# Altium footprint library PcbLib1.PcbLib: 27 footprints (part 1 of 2)
Each footprint in its own frame and in the unit in brackets; x right, y up, seen from the top. Pads: shape width x height; smd on the part's side, far side on the other; paste and mask are expansions set on the pad; w line width, h text height; cw(c..) or ccw(c..) is an arc to the next point about the centre after c.
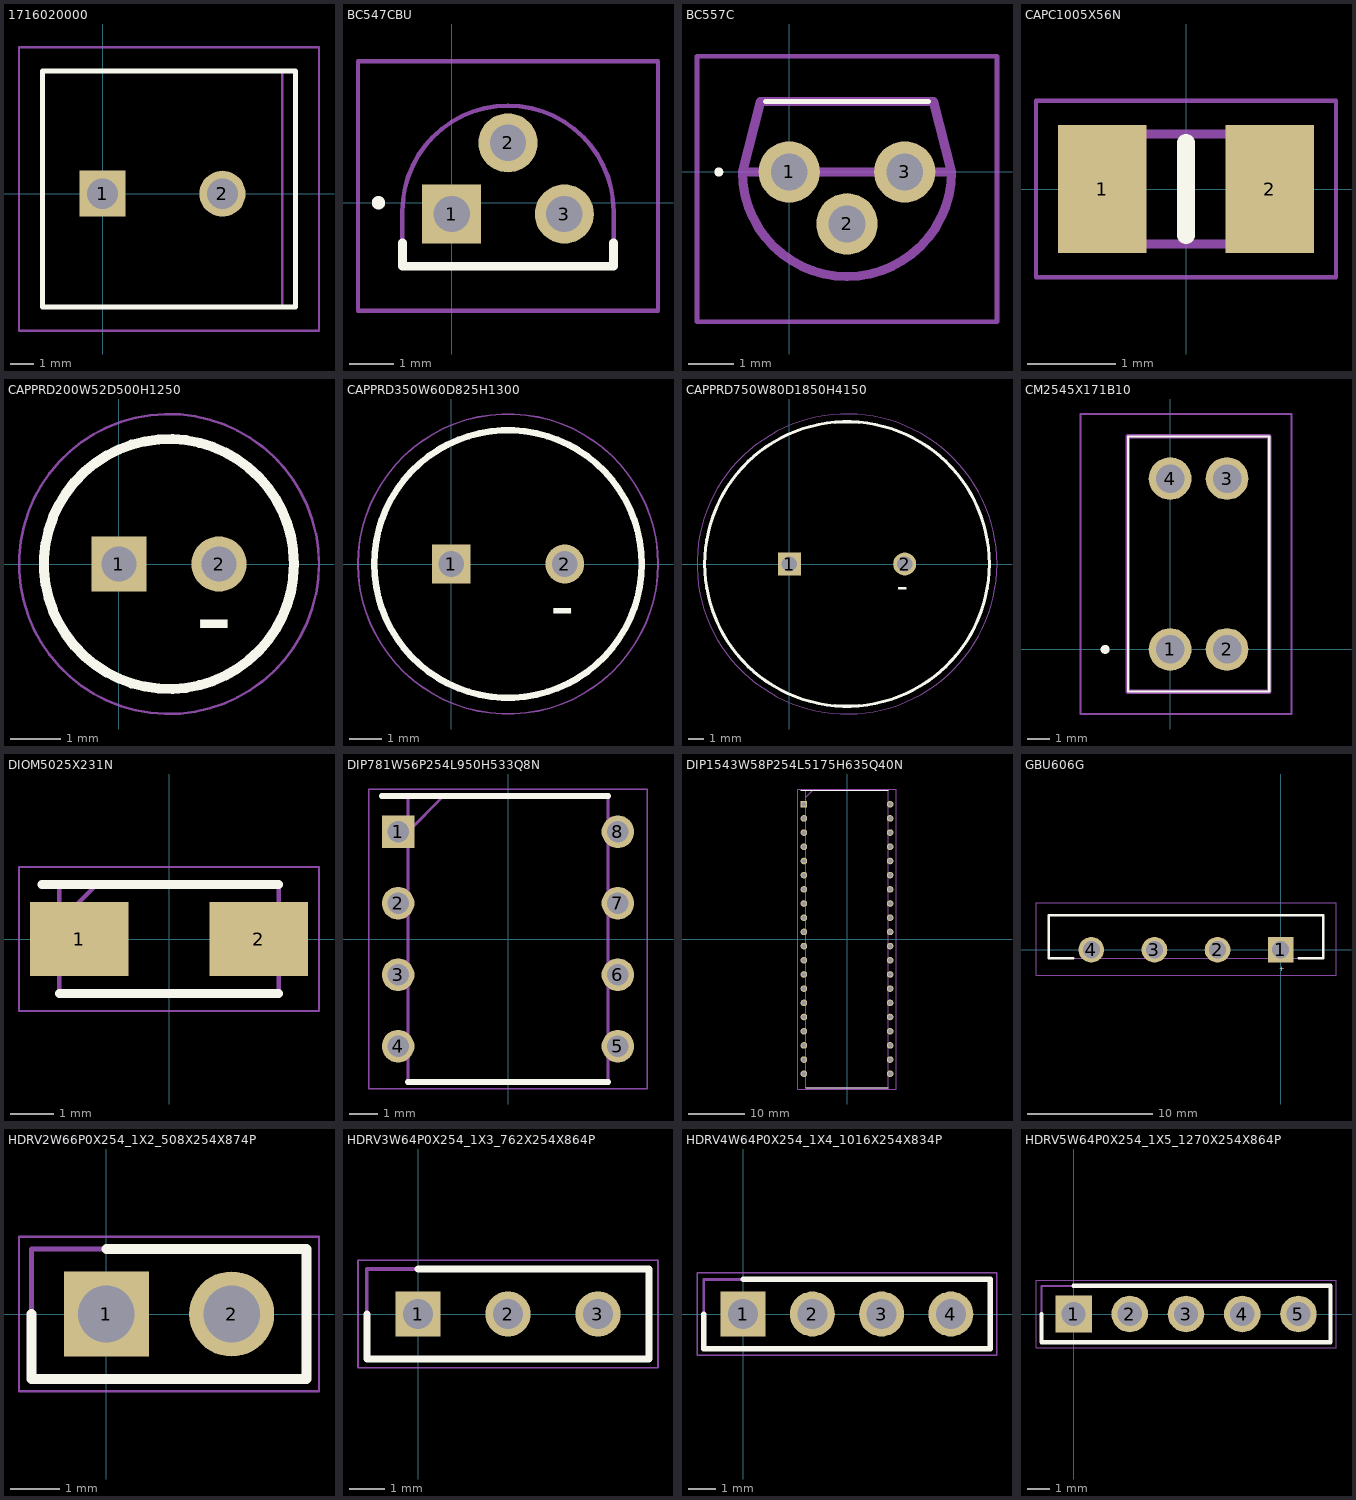
[diagram p0: the footprints below, top view; thin cyan lines are the x and y axes]

## 1716020000 [mm]
pads (2):
  rect 1.95x1.95 hole 1.3: 1(0,0)
  round 1.95 hole 1.3: 2(5.08,0)
Top Overlay:
  lines w0.2: -2.54,-4.8 -2.54,5.2 8.17,5.2 8.17,-4.8 -2.54,-4.8
Mechanical 13:
  lines w0.1: 7.62,-4.8 7.62,5.2 ; -2.54,-4.8 -2.54,5.2 8.17,5.2 8.17,-4.8 -2.54,-4.8
Mechanical 15:
  lines w0.1: -3.54,-5.8 -3.54,6.2 9.17,6.2 9.17,-5.8 -3.54,-5.8
3D body "1716020000.stp": height 13.8, standoff -3.5, extent -2.54,-4.8 8.17,5.2

## BC547CBU [mm]
pads (3):
  rect 1.333x1.333 hole 0.82: 1(0,-0.254)
  round 1.333 hole 0.82: 2(1.27,1.35) 3(2.54,-0.254)
Top Overlay:
  lines w0.2: -1.11,-0.9 -1.11,-1.43 3.65,-1.43 3.65,-0.9 ; -1.7,0 ccw(c-1.65,0) -1.6,0 ; -1.7,0 cw(c-1.65,0) -1.6,0 ; -1.7,0 ccw(c-1.65,0) -1.6,0
Mechanical 13:
  lines w0.1: -1.11,-1.43 1.27,-1.43 3.65,-1.43 3.65,-0.19 ccw(c1.27,-0.19) -1.11,-0.19 -1.11,-1.43
Mechanical 15:
  lines w0.1: -2.11,-2.43 4.65,-2.43 4.65,3.19 -2.11,3.19 -2.11,-2.43
3D body "BC547CBU.stp": height 5.43, standoff -5, extent -1.11,-1.43 3.65,2.19

## BC557C [mm]
pads (3):
  round 1.35 hole 0.81: 1(0,0) 2(1.27,-1.143) 3(2.54,0)
Top Overlay:
  lines w0.1: -0.53,1.55 3.07,1.55 ; -1.6,0 ccw(c-1.55,0) -1.5,0 ccw(c-1.55,0) -1.6,0
Mechanical 13:
  lines w0.2: -1.03,0 ccw(c1.27,0) 3.57,0 ; -1.03,0 3.57,0 ; -1.03,0 -0.63,1.55 3.17,1.55 3.57,0
Mechanical 15:
  lines w0.1: -2.03,-3.3 4.57,-3.3 4.57,2.55 -2.03,2.55 -2.03,-3.3

## CAPC1005X56N [mm]
pads (2):
  rect 1x1.45 smd: 1(-0.95,0) 2(0.95,0)
Top Overlay:
  lines w0.2: 0,-0.525 0,0.525
Mechanical 13:
  lines w0.1: -1,-0.625 1,-0.625 1,0.625 -1,0.625 -1,-0.625
Mechanical 15:
  lines w0.05: -1.7,-1 1.7,-1 1.7,1 -1.7,1 -1.7,-1
3D body "CPF0805B100RE1.stp": height 0.65, standoff 0, extent -1,-0.625 1,0.625

## CAPPRD200W52D500H1250 [mm]
pads (2):
  rect 1.1x1.1 hole 0.7: 1(0,0)
  round 1.1 hole 0.7: 2(2,0)
Top Overlay:
  circle w0.2: c1,0 r2.5
  text "-" at 1.524,-1.778 h1.52
Mechanical 13:
  circle w0.1: c1,0 r2.5
Mechanical 15:
  circle w0.05: c1,0 r3
3D body "860020672010.stp": height 12.5, standoff -10, extent -1.75,-2.75 3.75,2.75

## CAPPRD350W60D825H1300 [mm]
pads (2):
  rect 1.2x1.2 hole 0.8: 1(0,0)
  round 1.2 hole 0.8: 2(3.5,0)
Top Overlay:
  circle w0.2: c1.75,0 r4.125
  text "-" at 3.048,-2.032 h1.52
Mechanical 13:
  circle w0.1: c1.75,0 r4.125
Mechanical 15:
  circle w0.05: c1.75,0 r4.625
3D body "RGA101M1HBK-0811G.stp": height 13, standoff -10, extent -2.5,-4.25 6,4.25

## CAPPRD750W80D1850H4150 [mm]
pads (2):
  rect 1.5x1.5 hole 1: 1(0,0)
  round 1.5 hole 1: 2(7.5,0)
Top Overlay:
  circle w0.2: c3.75,0 r9.25
  text "-" at 6.985,-2.159 h1.52
Mechanical 13:
  circle w0.1: c3.75,0 r9.25
Mechanical 15:
  circle w0.05: c3.75,0 r9.75
3D body "50PK4700MEFC18X40.stp": height 41.5, standoff -10, extent -5.5,-9.25 13,9.25

## CM2545X171B10 [mm]
pads (4):
  round 1.905 hole 1.27: 1(0,0) 2(2.54,0) 3(2.54,7.62) 4(0,7.62)
Top Overlay:
  lines w0.1: -1.88,-1.88 4.42,-1.88 4.42,9.5 -1.88,9.5 -1.88,-1.88
  lines w0.2: -3,0 ccw(c-2.9,0) -2.8,0 ccw(c-2.9,0) -3,0
Mechanical 13:
  lines w0.2: -1.88,-1.88 4.42,-1.88 4.42,9.5 -1.88,9.5 -1.88,-1.88
Mechanical 15:
  lines w0.1: -4,-2.88 5.42,-2.88 5.42,10.5 -4,10.5 -4,-2.88
3D body "CM2545X171B-10.stp": height 9.6, standoff -5, extent -1.88,-1.88 4.42,9.5

## DIOM5025X231N [mm]
pads (2):
  rect 2.25x1.7 smd: 1(-2.05,0) 2(2.05,0)
Top Overlay:
  lines w0.2: -2.9,1.242 2.502,1.242 ; -2.502,-1.242 2.502,-1.242
Mechanical 13:
  lines w0.1: -2.502,0.392 -1.652,1.242 ; -2.502,-1.242 2.502,-1.242 2.502,1.242 -2.502,1.242 -2.502,-1.242
Mechanical 15:
  lines w0.05: -3.425,-1.645 3.425,-1.645 3.425,1.645 -3.425,1.645 -3.425,-1.645
3D body "FM4007W-W.stp": height 2.31, standoff 0, extent -2.502,-1.242 2.502,1.242

## DIP781W56P254L950H533Q8N [mm]
pads (8):
  rect 1.158x1.158 hole 0.758: 1(-3.905,3.81)
  round 1.158 hole 0.758: 2(-3.905,1.27) 3(-3.905,-1.27) 4(-3.905,-3.81) 5(3.905,-3.81) 6(3.905,-1.27) 7(3.905,1.27) 8(3.905,3.81)
Top Overlay:
  lines w0.2: -4.484,5.08 3.556,5.08 ; -3.556,-5.08 3.556,-5.08
Mechanical 13:
  lines w0.1: -3.556,3.81 -2.286,5.08 ; -3.556,-5.08 3.556,-5.08 3.556,5.08 -3.556,5.08 -3.556,-5.08
Mechanical 15:
  lines w0.05: -4.956,-5.33 4.956,-5.33 4.956,5.33 -4.956,5.33 -4.956,-5.33
3D body "MCP6002-E_P.stp": height 5.33, standoff -3.5, extent -4.045,-4.75 4.045,4.75

## DIP1543W58P254L5175H635Q40N [mm]
pads (40):
  rect 1.184x1.184 hole 0.784: 1(-7.715,24.13)
  round 1.184 hole 0.784: 2(-7.715,21.59) 3(-7.715,19.05) 4(-7.715,16.51) 5(-7.715,13.97) 6(-7.715,11.43) 7(-7.715,8.89) 8(-7.715,6.35) 9(-7.715,3.81) 10(-7.715,1.27) 11(-7.715,-1.27) 12(-7.715,-3.81) 13(-7.715,-6.35) 14(-7.715,-8.89) 15(-7.715,-11.43) 16(-7.715,-13.97) 17(-7.715,-16.51) 18(-7.715,-19.05) 19(-7.715,-21.59) 20(-7.715,-24.13) 21(7.715,-24.13) 22(7.715,-21.59) 23(7.715,-19.05) 24(7.715,-16.51) 25(7.715,-13.97) 26(7.715,-11.43) 27(7.715,-8.89) 28(7.715,-6.35) 29(7.715,-3.81) 30(7.715,-1.27) 31(7.715,1.27) 32(7.715,3.81) 33(7.715,6.35) 34(7.715,8.89) 35(7.715,11.43) 36(7.715,13.97) 37(7.715,16.51) 38(7.715,19.05) 39(7.715,21.59) 40(7.715,24.13)
Top Overlay:
  lines w0.2: -8.307,26.606 7.366,26.606 ; -7.366,-26.606 7.366,-26.606
Mechanical 13:
  lines w0.1: -7.366,25.336 -6.096,26.606 ; -7.366,-26.606 -7.366,26.606 7.366,26.606 7.366,-26.606 -7.366,-26.606
Mechanical 15:
  lines w0.05: -8.78,-26.856 -8.78,26.856 8.78,26.856 8.78,-26.856 -8.78,-26.856
3D body "ATMEGA4809-PF.stp": height 6.35, standoff -3.5, extent -7.861,-25.876 7.861,25.876

## GBU606G [mm]
pads (4):
  rect 2.055x2.055 hole 1.37: 1(0,0)
  round 2.055 hole 1.37: 2(-5.05,0) 3(-10.1,0) 4(-15.15,0)
Top Overlay:
  lines w0.2: -16.575,-0.695 -18.575,-0.695 -18.575,2.755 3.425,2.755 3.425,-0.695 1.425,-0.695
  text "+" at -0.127,-1.714 h0.38
Mechanical 13:
  lines w0.1: -18.575,-0.695 3.425,-0.695 3.425,2.755 -18.575,2.755 -18.575,-0.695
Mechanical 15:
  lines w0.1: -19.575,-2.027 4.425,-2.027 4.425,3.755 -19.575,3.755 -19.575,-2.027
3D body "GBU606-G.stp": height 21.05, standoff -5, extent -18.575,-0.695 3.425,2.755

## HDRV2W66P0X254_1X2_508X254X874P [mm]
pads (2):
  rect 1.725x1.725 hole 1.15: 1(0,0)
  round 1.725 hole 1.15: 2(2.54,0)
Top Overlay:
  lines w0.2: -1.52,0 -1.52,-1.32 4.06,-1.32 4.06,1.32 0,1.32
Mechanical 13:
  lines w0.1: -1.52,-1.32 -1.52,1.32 4.06,1.32 4.06,-1.32 -1.52,-1.32
Mechanical 15:
  lines w0.05: -1.77,-1.57 -1.77,1.57 4.31,1.57 4.31,-1.57 -1.77,-1.57
3D body "M20-9990246.stp": height 8.74, standoff -3, extent -1.27,-1.27 3.81,1.27

## HDRV3W64P0X254_1X3_762X254X864P [mm]
pads (3):
  rect 1.275x1.275 hole 0.85: 1(0,0)
  round 1.275 hole 0.85: 2(2.54,0) 3(5.08,0)
Top Overlay:
  lines w0.2: -1.445,0 -1.445,-1.27 6.525,-1.27 6.525,1.27 0,1.27
Mechanical 13:
  lines w0.1: -1.445,-1.27 -1.445,1.27 6.525,1.27 6.525,-1.27 -1.445,-1.27
Mechanical 15:
  lines w0.05: -1.695,-1.52 -1.695,1.52 6.775,1.52 6.775,-1.52 -1.695,-1.52
3D body "M20-9990345.stp": height 8.64, standoff -3, extent -1.27,-1.27 6.35,1.27

## HDRV4W64P0X254_1X4_1016X254X834P [mm]
pads (4):
  rect 1.65x1.65 hole 1.1: 1(0,0)
  round 1.65 hole 1.1: 2(2.54,0) 3(5.08,0) 4(7.62,0)
Top Overlay:
  lines w0.2: -1.445,0 -1.445,-1.27 9.065,-1.27 9.065,1.27 0,1.27
Mechanical 13:
  lines w0.1: -1.445,-1.27 -1.445,1.27 9.065,1.27 9.065,-1.27 -1.445,-1.27
Mechanical 15:
  lines w0.05: -1.695,-1.52 -1.695,1.52 9.315,1.52 9.315,-1.52 -1.695,-1.52
3D body "M20-9770446.stp": height 8.34, standoff -3.1, extent -1.27,-1.27 8.89,1.27

## HDRV5W64P0X254_1X5_1270X254X864P [mm]
pads (5):
  rect 1.65x1.65 hole 1.1: 1(0,0)
  round 1.65 hole 1.1: 2(2.54,0) 3(5.08,0) 4(7.62,0) 5(10.16,0)
Top Overlay:
  lines w0.2: -1.445,0 -1.445,-1.27 11.605,-1.27 11.605,1.27 0,1.27
Mechanical 13:
  lines w0.1: -1.445,-1.27 11.605,-1.27 11.605,1.27 -1.445,1.27 -1.445,-1.27
Mechanical 15:
  lines w0.05: -1.695,-1.52 11.855,-1.52 11.855,1.52 -1.695,1.52 -1.695,-1.52
3D body "M20-9990545.stp": height 8.64, standoff -3, extent -1.27,-1.27 11.43,1.27